# Altium integrated library Molex FFC - FPC Connectors (SMT).IntLib: 638 symbols (part 19 of 20)
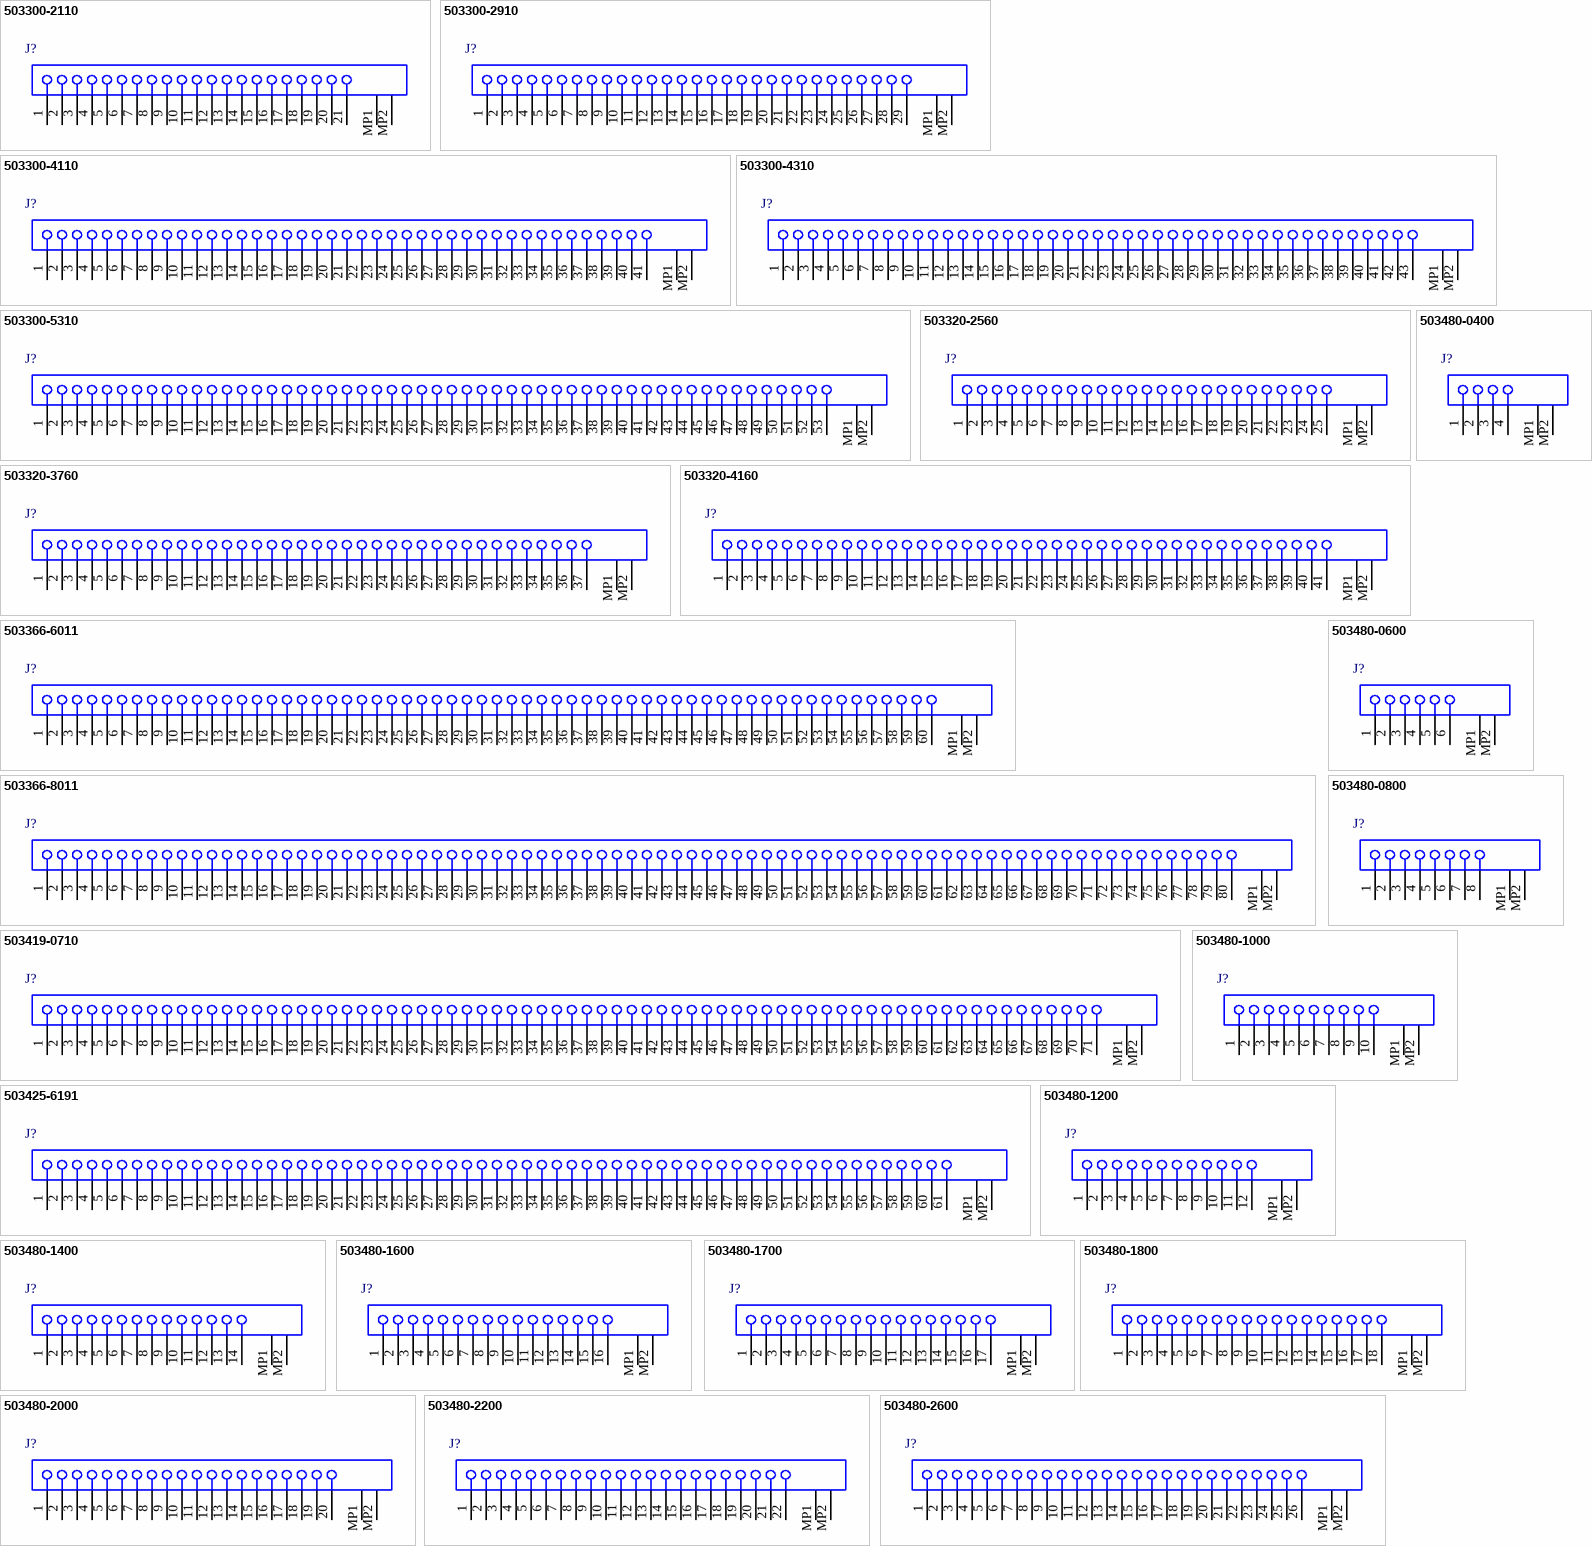
[diagram p39: symbols 503300-2110 to 503480-2600]

## 503300-4110
designator J?
0.25 mm Pitch Easy-On(TM) Front-Flip Type FPC Connector, 1.2 mm Mated Height, Right Angle, SMT, Top Contact, 41 Circuits, -40 to 80 degC, ELV and RoHS Compliant, Tray; Manufacturer: Molex; PartNumber: 503300-4110; Circuits (Loaded): 41; Current (Max per Contact): 0.2A; Durability (mating cycles max): 10; Entry Angle: 90degrees Angle; Mated Height: 1.20mm; Material - Metal: Phosphor Bronze; Material - Plating Mating: Gold over Nickel; PCB Retention: None; Pitch - Mating Interface: 0.25mm; Polarized to PCB: No; Voltage (Max): 50V AC (RMS)/DC; PackageVersion: Rev. C, 02/2014; PackageReference: 503300-4110; PackageDescription: 41-Lead FPC Connector, Pitch 0.25 mm; Contact Position: Top; Number of Rows: 1; Orientation: Right Angle; Packing: Tray; RoHS: TRUE; Stackable: No; Mounting Technology: Surface Mount; ComponentLink1Description: Manufacturer URL; ComponentLink1URL: http://www.molex.com/molex/index.jsp; ComponentLink2Description: Datasheet; ComponentLink2URL: http://www.molex.com/webdocs/datasheets/pdf/en-us/5033004110_FFC_FPC_CONNECTORS.pdf; ComponentLink3Description: Package Specification; ComponentLink3URL: http://www.molex.com/pdm_docs/sd/5033004110_sd.pdf
footprint MOLX-503300-4110 (FPC Connector, 41-Leads, Right Angle, Pitch 0.25 mm, Mated Height 1.2 mm, SMT)
pins: 1, 2, 3, 4, 5, 6, 7, 8, 9, 10, 11, 12, 13, 14, 15, 16, 17, 18, 19, 20, 21, 22, 23, 24, 25, 26, 27, 28, 29, 30, 31, 32, 33, 34, 35, 36, 37, 38, 39, 40, 41, MP1, MP2

## 503300-4310
designator J?
0.25 mm Pitch Easy-On(TM) Front-Flip Type FPC Connector, 1.2 mm Mated Height, Right Angle, SMT, Top Contact, 43 Circuits, -40 to 80 degC, ELV and RoHS Compliant, Tray; Manufacturer: Molex; PartNumber: 503300-4310; Circuits (Loaded): 43; Current (Max per Contact): 0.2A; Durability (mating cycles max): 10; Entry Angle: 90degrees Angle; Mated Height: 1.20mm; Material - Metal: Phosphor Bronze; Material - Plating Mating: Gold over Nickel; PCB Retention: None; Pitch - Mating Interface: 0.25mm; Polarized to PCB: No; Voltage (Max): 50V AC (RMS)/DC; PackageVersion: Rev. C, 02/2014; PackageReference: 503300-4310; PackageDescription: 43-Lead FPC Connector, Pitch 0.25 mm; Contact Position: Top; Number of Rows: 1; Orientation: Right Angle; Packing: Tray; RoHS: TRUE; Stackable: No; Mounting Technology: Surface Mount; ComponentLink1Description: Manufacturer URL; ComponentLink1URL: http://www.molex.com/molex/index.jsp; ComponentLink2Description: Datasheet; ComponentLink2URL: http://www.molex.com/webdocs/datasheets/pdf/en-us/5033004310_FFC_FPC_CONNECTORS.pdf; ComponentLink3Description: Package Specification; ComponentLink3URL: http://www.molex.com/pdm_docs/sd/5033004310_sd.pdf
footprint MOLX-503300-4310 (FPC Connector, 43-Leads, Right Angle, Pitch 0.25 mm, Mated Height 1.2 mm, SMT)
pins: 1, 2, 3, 4, 5, 6, 7, 8, 9, 10, 11, 12, 13, 14, 15, 16, 17, 18, 19, 20, 21, 22, 23, 24, 25, 26, 27, 28, 29, 30, 31, 32, 33, 34, 35, 36, 37, 38, 39, 40, 41, 42, 43, MP1, MP2

## 503300-5310
designator J?
0.25 mm Pitch Easy-On(TM) Front-Flip Type FPC Connector, 1.2 mm Mated Height, Right Angle, SMT, Top Contact, 53 Circuits, -40 to 80 degC, ELV and RoHS Compliant, Tray; Manufacturer: Molex; PartNumber: 503300-5310; Circuits (Loaded): 53; Current (Max per Contact): 0.2A; Durability (mating cycles max): 10; Entry Angle: 90degrees Angle; Mated Height: 1.20mm; Material - Metal: Phosphor Bronze; Material - Plating Mating: Gold over Nickel; PCB Retention: None; Pitch - Mating Interface: 0.25mm; Polarized to PCB: No; Voltage (Max): 50V AC (RMS)/DC; PackageVersion: Rev. C, 02/2014; PackageReference: 503300-5310; PackageDescription: 53-Lead FPC Connector, Pitch 0.25 mm; Contact Position: Top; Number of Rows: 1; Orientation: Right Angle; Packing: Tray; RoHS: TRUE; Stackable: No; Mounting Technology: Surface Mount; ComponentLink1Description: Manufacturer URL; ComponentLink1URL: http://www.molex.com/molex/index.jsp; ComponentLink2Description: Datasheet; ComponentLink2URL: http://www.molex.com/webdocs/datasheets/pdf/en-us/5033005310_FFC_FPC_CONNECTORS.pdf; ComponentLink3Description: Package Specification; ComponentLink3URL: http://www.molex.com/pdm_docs/sd/5033005310_sd.pdf
footprint MOLX-503300-5310 (FPC Connector, 53-Leads, Right Angle, Pitch 0.25 mm, Mated Height 1.2 mm, SMT)
pins: 1, 2, 3, 4, 5, 6, 7, 8, 9, 10, 11, 12, 13, 14, 15, 16, 17, 18, 19, 20, 21, 22, 23, 24, 25, 26, 27, 28, 29, 30, 31, 32, 33, 34, 35, 36, 37, 38, 39, 40, 41, 42, 43, 44, 45, 46, 47, 48, 49, 50, 51, 52, 53, MP1, MP2

## 503320-2560
designator J?
0.25 mm Pitch Easy-On(TM) Type FPC Connector, 1.65 mm Mated Height, Right Angle, SMT, Bottom Contact, 25 Circuits, -40 to 85 degC, ELV and RoHS Compliant, Tape and Reel; Manufacturer: Molex; PartNumber: 503320-2560; Circuits (Loaded): 25; Current (Max per Contact): 0.3A; Durability (mating cycles max): 10; Entry Angle: 90degrees Angle; Mated Height: 1.65mm; Material - Metal: Copper Alloy; Material - Plating Mating: Gold; PCB Locator: No; PCB Retention: Yes; Pitch - Mating Interface: 0.25mm; Voltage (Max): 50V; PackageVersion: Rev. B, 12/2011; PackageReference: 503320-2560; PackageDescription: 25-Lead FPC Connector, Pitch 0.25 mm; Contact Position: Bottom; Material - Plating Termination: Gold; Number of Rows: 1; Orientation: Right Angle; Packing: Tape and Reel; Polarized to PCB: Yes; RoHS: TRUE; Stackable: No; Mounting Technology: Surface Mount; ComponentLink1Description: Manufacturer URL; ComponentLink1URL: http://www.molex.com/molex/index.jsp; ComponentLink2Description: Datasheet; ComponentLink2URL: http://www.molex.com/webdocs/datasheets/pdf/en-us/5033202560_FFC_FPC_CONNECTORS.pdf; ComponentLink3Description: Package Specification; ComponentLink3URL: http://www.molex.com/pdm_docs/sd/5033202560_sd.pdf
footprint MOLX-503320-2560 (FPC Connector, 25-Leads, Right Angle, Pitch 0.25 mm, Mated Height 1.65 mm, SMT)
pins: 1, 2, 3, 4, 5, 6, 7, 8, 9, 10, 11, 12, 13, 14, 15, 16, 17, 18, 19, 20, 21, 22, 23, 24, 25, MP1, MP2

## 503320-3760
designator J?
0.25 mm Pitch Easy-On(TM) Type FPC Connector, 1.65 mm Mated Height, Right Angle, SMT, Bottom Contact, 37 Circuits, -40 to 85 degC, ELV and RoHS Compliant, Tape and Reel; Manufacturer: Molex; PartNumber: 503320-3760; Circuits (Loaded): 37; Current (Max per Contact): 0.3A; Durability (mating cycles max): 10; Entry Angle: 90degrees Angle; Mated Height: 1.65mm; Material - Metal: Copper Alloy; Material - Plating Mating: Gold; PCB Locator: No; PCB Retention: Yes; Pitch - Mating Interface: 0.25mm; Voltage (Max): 50V; PackageVersion: Rev. B, 12/2011; PackageReference: 503320-3760; PackageDescription: 37-Lead FPC Connector, Pitch 0.25 mm; Contact Position: Bottom; Material - Plating Termination: Gold; Number of Rows: 1; Orientation: Right Angle; Packing: Tape and Reel; Polarized to PCB: Yes; RoHS: TRUE; Stackable: No; Mounting Technology: Surface Mount; ComponentLink1Description: Manufacturer URL; ComponentLink1URL: http://www.molex.com/molex/index.jsp; ComponentLink2Description: Datasheet; ComponentLink2URL: http://www.molex.com/webdocs/datasheets/pdf/en-us/5033203760_FFC_FPC_CONNECTORS.pdf; ComponentLink3Description: Package Specification; ComponentLink3URL: http://www.molex.com/pdm_docs/sd/5033203760_sd.pdf
footprint MOLX-503320-3760 (FPC Connector, 37-Leads, Right Angle, Pitch 0.25 mm, Mated Height 1.65 mm, SMT)
pins: 1, 2, 3, 4, 5, 6, 7, 8, 9, 10, 11, 12, 13, 14, 15, 16, 17, 18, 19, 20, 21, 22, 23, 24, 25, 26, 27, 28, 29, 30, 31, 32, 33, 34, 35, 36, 37, MP1, MP2

## 503320-4160
designator J?
0.25 mm Pitch Easy-On(TM) Type FPC Connector, 1.65 mm Mated Height, Right Angle, SMT, Bottom Contact, 41 Circuits, -40 to 85 degC, ELV and RoHS Compliant, Tape and Reel; Manufacturer: Molex; PartNumber: 503320-4160; Circuits (Loaded): 41; Current (Max per Contact): 0.3A; Durability (mating cycles max): 10; Entry Angle: 90degrees Angle; Mated Height: 1.65mm; Material - Metal: Copper Alloy; Material - Plating Mating: Gold; PCB Locator: No; PCB Retention: Yes; Pitch - Mating Interface: 0.25mm; Voltage (Max): 50V; PackageVersion: Rev. B, 12/2011; PackageReference: 503320-4160; PackageDescription: 41-Lead FPC Connector, Pitch 0.25 mm; Contact Position: Bottom; Material - Plating Termination: Gold; Number of Rows: 1; Orientation: Right Angle; Packing: Tape and Reel; Polarized to PCB: Yes; RoHS: TRUE; Stackable: No; Mounting Technology: Surface Mount; ComponentLink1Description: Manufacturer URL; ComponentLink1URL: http://www.molex.com/molex/index.jsp; ComponentLink2Description: Datasheet; ComponentLink2URL: http://www.molex.com/webdocs/datasheets/pdf/en-us/5033204160_FFC_FPC_CONNECTORS.pdf; ComponentLink3Description: Package Specification; ComponentLink3URL: http://www.molex.com/pdm_docs/sd/5033204160_sd.pdf
footprint MOLX-503320-4160 (FPC Connector, 41-Leads, Right Angle, Pitch 0.25 mm, Mated Height 1.65 mm, SMT)
pins: 1, 2, 3, 4, 5, 6, 7, 8, 9, 10, 11, 12, 13, 14, 15, 16, 17, 18, 19, 20, 21, 22, 23, 24, 25, 26, 27, 28, 29, 30, 31, 32, 33, 34, 35, 36, 37, 38, 39, 40, 41, MP1, MP2

## 503366-6011
designator J?
0.5 mm Pitch Easy-On(TM) FPC Connector, 2.0 mm Mated Height, Right Angle, SMT, Bottom Contact, 60 Circuits, -20 to 85 degC, ELV and RoHS Compliant, Tape and Reel; Manufacturer: Molex; PartNumber: 503366-6011; Circuits (Loaded): 60; Current (Max per Contact): 0.5A; Durability (mating cycles max): 20; Entry Angle: Vertical; Mated Height: 2.00mm; Material - Metal: Phosphor Bronze; Material - Plating Mating: Gold over Nickel; Material - Plating Termination: Tin; PCB Locator: No; PCB Retention: Yes; Pitch - Mating Interface: 0.50mm; Voltage (Max): 50V DC; PackageVersion: Rev. A, 04/2010; PackageReference: 503366-6011; PackageDescription: 60-Lead FPC Connector, Pitch 0.5 mm; Circuits (maximum): 60; Contact Position: Bottom; Number of Rows: 1; Orientation: Right Angle; Packing: Tape and Reel; Pitch - Termination Interface: 0.50mm; Polarized to PCB: No; RoHS: TRUE; Stackable: No; Mounting Technology: Surface Mount; ComponentLink1Description: Manufacturer URL; ComponentLink1URL: http://www.molex.com/molex/index.jsp; ComponentLink2Description: Datasheet; ComponentLink2URL: http://www.molex.com/webdocs/datasheets/pdf/en-us/5033666011_FFC_FPC_CONNECTORS.pdf; ComponentLink3Description: Package Specification; ComponentLink3URL: http://www.molex.com/pdm_docs/sd/5033666011_sd.pdf
footprint MOLX-503366-6011 (FPC Connector, 60-Leads, Right Angle, Pitch 0.5 mm, Mated Height 2.0 mm, SMT)
pins: 1, 2, 3, 4, 5, 6, 7, 8, 9, 10, 11, 12, 13, 14, 15, 16, 17, 18, 19, 20, 21, 22, 23, 24, 25, 26, 27, 28, 29, 30, 31, 32, 33, 34, 35, 36, 37, 38, 39, 40, 41, 42, 43, 44, 45, 46, 47, 48, 49, 50, 51, 52, 53, 54, 55, 56, 57, 58, 59, 60, MP1, MP2

## 503366-8011
designator J?
0.5 mm Pitch Easy-On(TM) FPC Connector, 2.0 mm Mated Height, Right Angle, SMT, Bottom Contact, 80 Circuits, -20 to 85 degC, ELV and RoHS Compliant, Tape and Reel; Manufacturer: Molex; PartNumber: 503366-8011; Circuits (Loaded): 80; Current (Max per Contact): 0.5A; Durability (mating cycles max): 20; Entry Angle: Vertical; Mated Height: 2.00mm; Material - Metal: Phosphor Bronze; Material - Plating Mating: Gold over Nickel; Material - Plating Termination: Tin; PCB Locator: No; PCB Retention: Yes; Pitch - Mating Interface: 0.50mm; Voltage (Max): 50V DC; PackageVersion: Rev. A, 04/2010; PackageReference: 503366-8011; PackageDescription: 80-Lead FPC Connector, Pitch 0.5 mm; Circuits (maximum): 80; Contact Position: Bottom; Number of Rows: 1; Orientation: Right Angle; Packing: Tape and Reel; Pitch - Termination Interface: 0.50mm; Polarized to PCB: No; RoHS: TRUE; Stackable: No; Mounting Technology: Surface Mount; ComponentLink1Description: Manufacturer URL; ComponentLink1URL: http://www.molex.com/molex/index.jsp; ComponentLink2Description: Datasheet; ComponentLink2URL: http://www.molex.com/webdocs/datasheets/pdf/en-us/5033668011_FFC_FPC_CONNECTORS.pdf; ComponentLink3Description: Package Specification; ComponentLink3URL: http://www.molex.com/pdm_docs/sd/5033668011_sd.pdf
footprint MOLX-503366-8011 (FPC Connector, 80-Leads, Right Angle, Pitch 0.5 mm, Mated Height 2.0 mm, SMT)
pins: 1, 2, 3, 4, 5, 6, 7, 8, 9, 10, 11, 12, 13, 14, 15, 16, 17, 18, 19, 20, 21, 22, 23, 24, 25, 26, 27, 28, 29, 30, 31, 32, 33, 34, 35, 36, 37, 38, 39, 40, 41, 42, 43, 44, 45, 46, 47, 48, 49, 50, 51, 52, 53, 54, 55, 56, 57, 58, 59, 60, 61, 62, 63, 64, 65, 66, 67, 68, 69, 70, 71, 72, 73, 74, 75, 76, 77, 78, 79, 80, MP1, MP2

## 503419-0710
designator J?
0.2 mm Pitch Easy-On(TM) Front Flip Actuator Type FPC Connector, 0.9 mm Mated Height, Right Angle, ZIF, SMT, Bottom Contact, 71 Circuits, -40 to 85 degC, ELV and RoHS Compliant, Tape and Reel; Manufacturer: Molex; PartNumber: 503419-0710; Circuits (Loaded): 71; Current (Max per Contact): 0.2A; Durability (mating cycles max): 10; Entry Angle: 90degrees Angle; Mated Height: 0.90mm; Material - Metal: Copper Alloy; Material - Plating Mating: Gold; PCB Locator: No; PCB Retention: Yes; Pitch - Mating Interface: 0.20mm; Voltage (Max): 50V; PackageVersion: Rev. B, 08/2013; PackageReference: 503419-0710; PackageDescription: 71-Lead FPC Connector, Pitch 0.2 mm; Contact Position: Bottom; Material - Plating Termination: Gold; Number of Rows: 1; Orientation: Right Angle; Packing: Tape and Reel; Pitch - Termination Interface: 0.20mm; Polarized to PCB: Yes; RoHS: TRUE; Stackable: No; Mounting Technology: Surface Mount; ComponentLink1Description: Manufacturer URL; ComponentLink1URL: http://www.molex.com/molex/index.jsp; ComponentLink2Description: Datasheet; ComponentLink2URL: http://www.molex.com/webdocs/datasheets/pdf/en-us/5034190710_FFC_FPC_CONNECTORS.pdf; ComponentLink3Description: Package Specification; ComponentLink3URL: http://www.molex.com/pdm_docs/sd/5034190710_sd.pdf
footprint MOLX-503419-0710 (FPC Connector, 71-Leads, Right Angle, Pitch 0.2 mm, Mated Height 0.9 mm, SMT)
pins: 1, 2, 3, 4, 5, 6, 7, 8, 9, 10, 11, 12, 13, 14, 15, 16, 17, 18, 19, 20, 21, 22, 23, 24, 25, 26, 27, 28, 29, 30, 31, 32, 33, 34, 35, 36, 37, 38, 39, 40, 41, 42, 43, 44, 45, 46, 47, 48, 49, 50, 51, 52, 53, 54, 55, 56, 57, 58, 59, 60, 61, 62, 63, 64, 65, 66, 67, 68, 69, 70, 71, MP1, MP2

## 503425-6191
designator J?
0.3 mm Pitch Easy-On(TM) BackFlip(TM) Type FPC Connector, 0.9 mm Mated Height, Right Angle, SMT, Dual Contact, 61 Circuits, -40 to 85 degC, ELV and RoHS Compliant, Tape and Reel; Manufacturer: Molex; PartNumber: 503425-6191; Circuits (Loaded): 61; Current (Max per Contact): 0.2A; Durability (mating cycles max): 10; Entry Angle: 90degrees Angle; Mated Height: 0.90mm; Material - Metal: Copper-Nickel-Tin; Material - Plating Mating: Gold; PCB Locator: No; PCB Retention: Yes; Pitch - Mating Interface: 0.30mm; Voltage (Max): 50V AC (RMS)/DC; PackageVersion: Rev. 0, 05/2010; PackageReference: 503425-6191; PackageDescription: 61-Lead FPC Connector, Pitch 0.3 mm; Contact Position: Dual; Material - Plating Termination: Gold; Number of Rows: 1; Orientation: Right Angle; Packing: Tape and Reel; Polarized to PCB: Yes; RoHS: TRUE; Stackable: No; Mounting Technology: Surface Mount; ComponentLink1Description: Manufacturer URL; ComponentLink1URL: http://www.molex.com/molex/index.jsp; ComponentLink2Description: Datasheet; ComponentLink2URL: http://www.molex.com/webdocs/datasheets/pdf/en-us/5034256191_FFC_FPC_CONNECTORS.pdf; ComponentLink3Description: Package Specification; ComponentLink3URL: http://www.molex.com/pdm_docs/sd/5034256191_sd.pdf
footprint MOLX-503425-6191 (FPC Connector, 61-Leads, Right Angle, Pitch 0.3 mm, Mated Height 0.9 mm, SMT)
pins: 1, 2, 3, 4, 5, 6, 7, 8, 9, 10, 11, 12, 13, 14, 15, 16, 17, 18, 19, 20, 21, 22, 23, 24, 25, 26, 27, 28, 29, 30, 31, 32, 33, 34, 35, 36, 37, 38, 39, 40, 41, 42, 43, 44, 45, 46, 47, 48, 49, 50, 51, 52, 53, 54, 55, 56, 57, 58, 59, 60, 61, MP1, MP2

## 503480-0400
designator J?
0.5 mm Pitch Easy-On(TM) BackFlip(TM) Type FPC Connector, 1.0 mm Mated Height, Right Angle, SMT, Dual Contact, 4 Circuits, -40 to 85 degC, ELV and RoHS Compliant, Tape and Reel; Manufacturer: Molex; PartNumber: 503480-0400; Circuits (Loaded): 4; Current (Max per Contact): 0.5A; Durability (mating cycles max): 10; Entry Angle: 90degrees Angle; Mated Height: 1.00mm; Material - Metal: Phosphor Bronze; Material - Plating Mating: Gold; Material - Plating Termination: Gold, Tin; PCB Locator: No; PCB Retention: Yes; Pitch - Mating Interface: 0.50mm; Voltage (Max): 50V AC (RMS)/DC; PackageVersion: Rev. F, 09/2012; PackageReference: 503480-0400; PackageDescription: 4-Lead FPC Connector, Pitch 0.5 mm; Contact Position: Dual; Number of Rows: 1; Orientation: Right Angle; Packing: Tape and Reel; Polarized to PCB: Yes; RoHS: TRUE; Stackable: No; Mounting Technology: Surface Mount; ComponentLink1Description: Manufacturer URL; ComponentLink1URL: http://www.molex.com/molex/index.jsp; ComponentLink2Description: Datasheet; ComponentLink2URL: http://www.molex.com/webdocs/datasheets/pdf/en-us/5034800400_FFC_FPC_CONNECTORS.pdf; ComponentLink3Description: Package Specification; ComponentLink3URL: http://www.molex.com/pdm_docs/sd/5034800400_sd.pdf
footprint MOLX-503480-0400 (FPC Connector, 4-Leads, Right Angle, Pitch 0.5 mm, Mated Height 1.0 mm, SMT)
pins: 1, 2, 3, 4, MP1, MP2

## 503480-0600
designator J?
0.5 mm Pitch Easy-On(TM) BackFlip(TM) Type FPC Connector, 1.0 mm Mated Height, Right Angle, SMT, Dual Contact, 6 Circuits, -40 to 85 degC, ELV and RoHS Compliant, Tape and Reel; Manufacturer: Molex; PartNumber: 503480-0600; Circuits (Loaded): 6; Current (Max per Contact): 0.5A; Durability (mating cycles max): 10; Entry Angle: 90degrees Angle; Mated Height: 1.00mm; Material - Metal: Phosphor Bronze; Material - Plating Mating: Gold; Material - Plating Termination: Gold, Tin; PCB Locator: No; PCB Retention: Yes; Pitch - Mating Interface: 0.50mm; Voltage (Max): 50V AC (RMS)/DC; PackageVersion: Rev. F, 09/2012; PackageReference: 503480-0600; PackageDescription: 6-Lead FPC Connector, Pitch 0.5 mm; Contact Position: Dual; Number of Rows: 1; Orientation: Right Angle; Packing: Tape and Reel; Polarized to PCB: Yes; RoHS: TRUE; Stackable: No; Mounting Technology: Surface Mount; ComponentLink1Description: Manufacturer URL; ComponentLink1URL: http://www.molex.com/molex/index.jsp; ComponentLink2Description: Datasheet; ComponentLink2URL: http://www.molex.com/webdocs/datasheets/pdf/en-us/5034800600_FFC_FPC_CONNECTORS.pdf; ComponentLink3Description: Package Specification; ComponentLink3URL: http://www.molex.com/pdm_docs/sd/5034800600_sd.pdf
footprint MOLX-503480-0600 (FPC Connector, 6-Leads, Right Angle, Pitch 0.5 mm, Mated Height 1.0 mm, SMT)
pins: 1, 2, 3, 4, 5, 6, MP1, MP2

## 503480-0800
designator J?
0.5 mm Pitch Easy-On(TM) BackFlip(TM) Type FPC Connector, 1.0 mm Mated Height, Right Angle, SMT, Dual Contact, 8 Circuits, -40 to 85 degC, ELV and RoHS Compliant, Tape and Reel; Manufacturer: Molex; PartNumber: 503480-0800; Circuits (Loaded): 8; Current (Max per Contact): 0.5A; Durability (mating cycles max): 10; Entry Angle: 90degrees Angle; Mated Height: 1.00mm; Material - Metal: Phosphor Bronze; Material - Plating Mating: Gold; Material - Plating Termination: Gold, Tin; PCB Locator: No; PCB Retention: Yes; Pitch - Mating Interface: 0.50mm; Voltage (Max): 50V AC (RMS)/DC; PackageVersion: Rev. F, 09/2012; PackageReference: 503480-0800; PackageDescription: 8-Lead FPC Connector, Pitch 0.5 mm; Contact Position: Dual; Number of Rows: 1; Orientation: Right Angle; Packing: Tape and Reel; Polarized to PCB: Yes; RoHS: TRUE; Stackable: No; Mounting Technology: Surface Mount; ComponentLink1Description: Manufacturer URL; ComponentLink1URL: http://www.molex.com/molex/index.jsp; ComponentLink2Description: Datasheet; ComponentLink2URL: http://www.molex.com/webdocs/datasheets/pdf/en-us/5034800800_FFC_FPC_CONNECTORS.pdf; ComponentLink3Description: Package Specification; ComponentLink3URL: http://www.molex.com/pdm_docs/sd/5034800800_sd.pdf
footprint MOLX-503480-0800 (FPC Connector, 8-Leads, Right Angle, Pitch 0.5 mm, Mated Height 1.0 mm, SMT)
pins: 1, 2, 3, 4, 5, 6, 7, 8, MP1, MP2

## 503480-1000
designator J?
0.5 mm Pitch Easy-On(TM) BackFlip(TM) Type FPC Connector, 1.0 mm Mated Height, Right Angle, SMT, Dual Contact, 10 Circuits, -40 to 85 degC, ELV and RoHS Compliant, Tape and Reel; Manufacturer: Molex; PartNumber: 503480-1000; Circuits (Loaded): 10; Current (Max per Contact): 0.5A; Entry Angle: 90degrees Angle; Mated Height: 1.00mm; Material - Metal: Phosphor Bronze; Material - Plating Mating: Gold; Material - Plating Termination: Gold, Tin; PCB Locator: No; PCB Retention: Yes; Pitch - Mating Interface: 0.50mm; Voltage (Max): 50V AC (RMS)/DC; PackageVersion: Rev. F, 09/2012; PackageReference: 503480-1000; PackageDescription: 10-Lead FPC Connector, Pitch 0.5 mm; Contact Position: Dual; Durability (mating cycles max): 10; Number of Rows: 1; Orientation: Right Angle; Packing: Tape and Reel; Polarized to PCB: Yes; RoHS: TRUE; Stackable: No; Mounting Technology: Surface Mount; ComponentLink1Description: Manufacturer URL; ComponentLink1URL: http://www.molex.com/molex/index.jsp; ComponentLink2Description: Datasheet; ComponentLink2URL: http://www.molex.com/webdocs/datasheets/pdf/en-us/5034801000_FFC_FPC_CONNECTORS.pdf; ComponentLink3Description: Package Specification; ComponentLink3URL: http://www.molex.com/pdm_docs/sd/5034801000_sd.pdf
footprint MOLX-503480-1000 (FPC Connector, 10-Leads, Right Angle, Pitch 0.5 mm, Mated Height 1.0 mm, SMT)
pins: 1, 2, 3, 4, 5, 6, 7, 8, 9, 10, MP1, MP2

## 503480-1200
designator J?
0.5 mm Pitch Easy-On(TM) BackFlip(TM) Type FPC Connector, 1.0 mm Mated Height, Right Angle, SMT, Dual Contact, 12 Circuits, -40 to 85 degC, ELV and RoHS Compliant, Tape and Reel; Manufacturer: Molex; PartNumber: 503480-1200; Circuits (Loaded): 12; Current (Max per Contact): 0.5A; Durability (mating cycles max): 10; Entry Angle: 90degrees Angle; Mated Height: 1.00mm; Material - Metal: Phosphor Bronze; Material - Plating Mating: Gold; Material - Plating Termination: Gold, Tin; PCB Locator: No; PCB Retention: Yes; Pitch - Mating Interface: 0.50mm; Voltage (Max): 50V AC (RMS)/DC; PackageVersion: Rev. F, 09/2012; PackageReference: 503480-1200; PackageDescription: 12-Lead FPC Connector, Pitch 0.5 mm; Contact Position: Dual; Number of Rows: 1; Orientation: Right Angle; Packing: Tape and Reel; Polarized to PCB: Yes; RoHS: TRUE; Stackable: No; Mounting Technology: Surface Mount; ComponentLink1Description: Manufacturer URL; ComponentLink1URL: http://www.molex.com/molex/index.jsp; ComponentLink2Description: Datasheet; ComponentLink2URL: http://www.molex.com/webdocs/datasheets/pdf/en-us/5034801200_FFC_FPC_CONNECTORS.pdf; ComponentLink3Description: Package Specification; ComponentLink3URL: http://www.molex.com/pdm_docs/sd/5034801200_sd.pdf
footprint MOLX-503480-1200 (FPC Connector, 12-Leads, Right Angle, Pitch 0.5 mm, Mated Height 1.0 mm, SMT)
pins: 1, 2, 3, 4, 5, 6, 7, 8, 9, 10, 11, 12, MP1, MP2

## 503480-1400
designator J?
0.5 mm Pitch Easy-On(TM) BackFlip(TM) Type FPC Connector, 1.0 mm Mated Height, Right Angle, SMT, Dual Contact, 14 Circuits, -40 to 85 degC, ELV and RoHS Compliant, Tape and Reel; Manufacturer: Molex; PartNumber: 503480-1400; Circuits (Loaded): 14; Current (Max per Contact): 0.5A; Durability (mating cycles max): 10; Entry Angle: 90degrees Angle; Mated Height: 1.00mm; Material - Metal: Phosphor Bronze; Material - Plating Mating: Gold; Material - Plating Termination: Gold, Tin; PCB Locator: No; PCB Retention: Yes; Pitch - Mating Interface: 0.50mm; Voltage (Max): 50V AC (RMS)/DC; PackageVersion: Rev. F, 09/2012; PackageReference: 503480-1400; PackageDescription: 14-Lead FPC Connector, Pitch 0.5 mm; Contact Position: Dual; Number of Rows: 1; Orientation: Right Angle; Packing: Tape and Reel; Polarized to PCB: Yes; RoHS: TRUE; Stackable: No; Mounting Technology: Surface Mount; ComponentLink1Description: Manufacturer URL; ComponentLink1URL: http://www.molex.com/molex/index.jsp; ComponentLink2Description: Datasheet; ComponentLink2URL: http://www.molex.com/webdocs/datasheets/pdf/en-us/5034801400_FFC_FPC_CONNECTORS.pdf; ComponentLink3Description: Package Specification; ComponentLink3URL: http://www.molex.com/pdm_docs/sd/5034801400_sd.pdf
footprint MOLX-503480-1400 (FPC Connector, 14-Leads, Right Angle, Pitch 0.5 mm, Mated Height 1.0 mm, SMT)
pins: 1, 2, 3, 4, 5, 6, 7, 8, 9, 10, 11, 12, 13, 14, MP1, MP2

## 503480-1600
designator J?
0.5 mm Pitch Easy-On(TM) BackFlip(TM) Type FPC Connector, 1.0 mm Mated Height, Right Angle, SMT, Dual Contact, 16 Circuits, -40 to 85 degC, ELV and RoHS Compliant, Tape and Reel; Manufacturer: Molex; PartNumber: 503480-1600; Circuits (Loaded): 16; Current (Max per Contact): 0.5A; Durability (mating cycles max): 10; Entry Angle: 90degrees Angle; Mated Height: 1.00mm; Material - Metal: Phosphor Bronze; Material - Plating Mating: Gold; Material - Plating Termination: Gold, Tin; PCB Locator: No; PCB Retention: Yes; Pitch - Mating Interface: 0.50mm; Voltage (Max): 50V AC (RMS)/DC; PackageVersion: Rev. F, 09/2012; PackageReference: 503480-1600; PackageDescription: 16-Lead FPC Connector, Pitch 0.5 mm; Contact Position: Dual; Number of Rows: 1; Orientation: Right Angle; Packing: Tape and Reel; Polarized to PCB: Yes; RoHS: TRUE; Stackable: No; Mounting Technology: Surface Mount; ComponentLink1Description: Manufacturer URL; ComponentLink1URL: http://www.molex.com/molex/index.jsp; ComponentLink2Description: Datasheet; ComponentLink2URL: http://www.molex.com/webdocs/datasheets/pdf/en-us/5034801600_FFC_FPC_CONNECTORS.pdf; ComponentLink3Description: Package Specification; ComponentLink3URL: http://www.molex.com/pdm_docs/sd/5034801600_sd.pdf
footprint MOLX-503480-1600 (FPC Connector, 16-Leads, Right Angle, Pitch 0.5 mm, Mated Height 1.0 mm, SMT)
pins: 1, 2, 3, 4, 5, 6, 7, 8, 9, 10, 11, 12, 13, 14, 15, 16, MP1, MP2

## 503480-1700
designator J?
0.5 mm Pitch Easy-On(TM) BackFlip(TM) Type FPC Connector, 1.0 mm Mated Height, Right Angle, SMT, Dual Contact, 17 Circuits, -40 to 85 degC, ELV and RoHS Compliant, Tape and Reel; Manufacturer: Molex; PartNumber: 503480-1700; Circuits (Loaded): 17; Current (Max per Contact): 0.5A; Durability (mating cycles max): 10; Entry Angle: 90degrees Angle; Mated Height: 1.00mm; Material - Metal: Phosphor Bronze; Material - Plating Mating: Gold; Material - Plating Termination: Gold, Tin; PCB Locator: No; PCB Retention: Yes; Pitch - Mating Interface: 0.50mm; Voltage (Max): 50V AC (RMS)/DC; PackageVersion: Rev. F, 09/2012; PackageReference: 503480-1700; PackageDescription: 17-Lead FPC Connector, Pitch 0.5 mm; Contact Position: Dual; Number of Rows: 1; Orientation: Right Angle; Packing: Tape and Reel; Polarized to PCB: Yes; RoHS: TRUE; Stackable: No; Mounting Technology: Surface Mount; ComponentLink1Description: Manufacturer URL; ComponentLink1URL: http://www.molex.com/molex/index.jsp; ComponentLink2Description: Datasheet; ComponentLink2URL: http://www.molex.com/webdocs/datasheets/pdf/en-us/5034801700_FFC_FPC_CONNECTORS.pdf; ComponentLink3Description: Package Specification; ComponentLink3URL: http://www.molex.com/pdm_docs/sd/5034801700_sd.pdf
footprint MOLX-503480-1700 (FPC Connector, 17-Leads, Right Angle, Pitch 0.5 mm, Mated Height 1.0 mm, SMT)
pins: 1, 2, 3, 4, 5, 6, 7, 8, 9, 10, 11, 12, 13, 14, 15, 16, 17, MP1, MP2

## 503480-1800
designator J?
0.5 mm Pitch Easy-On(TM) BackFlip(TM) Type FPC Connector, 1.0 mm Mated Height, Right Angle, SMT, Dual Contact, 18 Circuits, -40 to 85 degC, ELV and RoHS Compliant, Tape and Reel; Manufacturer: Molex; PartNumber: 503480-1800; Circuits (Loaded): 18; Current (Max per Contact): 0.5A; Durability (mating cycles max): 10; Entry Angle: 90degrees Angle; Mated Height: 1.00mm; Material - Metal: Phosphor Bronze; Material - Plating Mating: Gold; Material - Plating Termination: Gold, Tin; PCB Locator: No; PCB Retention: Yes; Pitch - Mating Interface: 0.50mm; Voltage (Max): 50V AC (RMS)/DC; PackageVersion: Rev. F, 09/2012; PackageReference: 503480-1800; PackageDescription: 18-Lead FPC Connector, Pitch 0.5 mm; Contact Position: Dual; Number of Rows: 1; Orientation: Right Angle; Packing: Tape and Reel; Polarized to PCB: Yes; RoHS: TRUE; Stackable: No; Mounting Technology: Surface Mount; ComponentLink1Description: Manufacturer URL; ComponentLink1URL: http://www.molex.com/molex/index.jsp; ComponentLink2Description: Datasheet; ComponentLink2URL: http://www.molex.com/webdocs/datasheets/pdf/en-us/5034801800_FFC_FPC_CONNECTORS.pdf; ComponentLink3Description: Package Specification; ComponentLink3URL: http://www.molex.com/pdm_docs/sd/5034801800_sd.pdf
footprint MOLX-503480-1800 (FPC Connector, 18-Leads, Right Angle, Pitch 0.5 mm, Mated Height 1.0 mm, SMT)
pins: 1, 2, 3, 4, 5, 6, 7, 8, 9, 10, 11, 12, 13, 14, 15, 16, 17, 18, MP1, MP2

## 503480-2000
designator J?
0.5 mm Pitch Easy-On(TM) BackFlip(TM) Type FPC Connector, 1.0 mm Mated Height, Right Angle, SMT, Dual Contact, 20 Circuits, -40 to 85 degC, ELV and RoHS Compliant, Tape and Reel; Manufacturer: Molex; PartNumber: 503480-2000; Circuits (Loaded): 20; Current (Max per Contact): 0.5A; Durability (mating cycles max): 10; Entry Angle: 90degrees Angle; Mated Height: 1.00mm; Material - Metal: Phosphor Bronze; Material - Plating Mating: Gold; Material - Plating Termination: Gold, Tin; PCB Locator: No; PCB Retention: Yes; Pitch - Mating Interface: 0.50mm; Voltage (Max): 50V AC (RMS)/DC; PackageVersion: Rev. F, 09/2012; PackageReference: 503480-2000; PackageDescription: 20-Lead FPC Connector, Pitch 0.5 mm; Contact Position: Dual; Number of Rows: 1; Orientation: Right Angle; Packing: Tape and Reel; Polarized to PCB: Yes; RoHS: TRUE; Stackable: No; Mounting Technology: Surface Mount; ComponentLink1Description: Manufacturer URL; ComponentLink1URL: http://www.molex.com/molex/index.jsp; ComponentLink2Description: Datasheet; ComponentLink2URL: http://www.molex.com/webdocs/datasheets/pdf/en-us/5034802000_FFC_FPC_CONNECTORS.pdf; ComponentLink3Description: Package Specification; ComponentLink3URL: http://www.molex.com/pdm_docs/sd/5034802000_sd.pdf
footprint MOLX-503480-2000 (FPC Connector, 20-Leads, Right Angle, Pitch 0.5 mm, Mated Height 1.0 mm, SMT)
pins: 1, 2, 3, 4, 5, 6, 7, 8, 9, 10, 11, 12, 13, 14, 15, 16, 17, 18, 19, 20, MP1, MP2

## 503480-2200
designator J?
0.5 mm Pitch Easy-On(TM) BackFlip(TM) Type FPC Connector, 1.0 mm Mated Height, Right Angle, SMT, Dual Contact, 22 Circuits, -40 to 85 degC, ELV and RoHS Compliant, Tape and Reel; Manufacturer: Molex; PartNumber: 503480-2200; Circuits (Loaded): 22; Current (Max per Contact): 0.5A; Durability (mating cycles max): 10; Entry Angle: 90degrees Angle; Mated Height: 1.00mm; Material - Metal: Phosphor Bronze; Material - Plating Mating: Gold; Material - Plating Termination: Gold, Tin; PCB Locator: No; PCB Retention: Yes; Pitch - Mating Interface: 0.50mm; Voltage (Max): 50V AC (RMS)/DC; PackageVersion: Rev. F, 09/2012; PackageReference: 503480-2200; PackageDescription: 22-Lead FPC Connector, Pitch 0.5 mm; Contact Position: Dual; Number of Rows: 1; Orientation: Right Angle; Packing: Tape and Reel; Polarized to PCB: Yes; RoHS: TRUE; Stackable: No; Mounting Technology: Surface Mount; ComponentLink1Description: Manufacturer URL; ComponentLink1URL: http://www.molex.com/molex/index.jsp; ComponentLink2Description: Datasheet; ComponentLink2URL: http://www.molex.com/webdocs/datasheets/pdf/en-us/5034802200_FFC_FPC_CONNECTORS.pdf; ComponentLink3Description: Package Specification; ComponentLink3URL: http://www.molex.com/pdm_docs/sd/5034802200_sd.pdf
footprint MOLX-503480-2200 (FPC Connector, 22-Leads, Right Angle, Pitch 0.5 mm, Mated Height 1.0 mm, SMT)
pins: 1, 2, 3, 4, 5, 6, 7, 8, 9, 10, 11, 12, 13, 14, 15, 16, 17, 18, 19, 20, 21, 22, MP1, MP2

## 503480-2600
designator J?
0.5 mm Pitch Easy-On(TM) BackFlip(TM) Type FPC Connector, 1.0 mm Mated Height, Right Angle, SMT, Dual Contact, 26 Circuits, -40 to 85 degC, ELV and RoHS Compliant, Tape and Reel; Manufacturer: Molex; PartNumber: 503480-2600; Circuits (Loaded): 26; Current (Max per Contact): 0.5A; Durability (mating cycles max): 10; Entry Angle: 90degrees Angle; Mated Height: 1.00mm; Material - Metal: Phosphor Bronze; Material - Plating Mating: Gold; Material - Plating Termination: Gold, Tin; PCB Locator: No; PCB Retention: Yes; Pitch - Mating Interface: 0.50mm; Voltage (Max): 50V AC (RMS)/DC; PackageVersion: Rev. F, 09/2012; PackageReference: 503480-2600; PackageDescription: 26-Lead FPC Connector, Pitch 0.5 mm; Contact Position: Dual; Number of Rows: 1; Orientation: Right Angle; Packing: Tape and Reel; Polarized to PCB: Yes; RoHS: TRUE; Stackable: No; Mounting Technology: Surface Mount; ComponentLink1Description: Manufacturer URL; ComponentLink1URL: http://www.molex.com/molex/index.jsp; ComponentLink2Description: Datasheet; ComponentLink2URL: http://www.molex.com/webdocs/datasheets/pdf/en-us/5034802600_FFC_FPC_CONNECTORS.pdf; ComponentLink3Description: Package Specification; ComponentLink3URL: http://www.molex.com/pdm_docs/sd/5034802600_sd.pdf
footprint MOLX-503480-2600 (FPC Connector, 26-Leads, Right Angle, Pitch 0.5 mm, Mated Height 1.0 mm, SMT)
pins: 1, 2, 3, 4, 5, 6, 7, 8, 9, 10, 11, 12, 13, 14, 15, 16, 17, 18, 19, 20, 21, 22, 23, 24, 25, 26, MP1, MP2

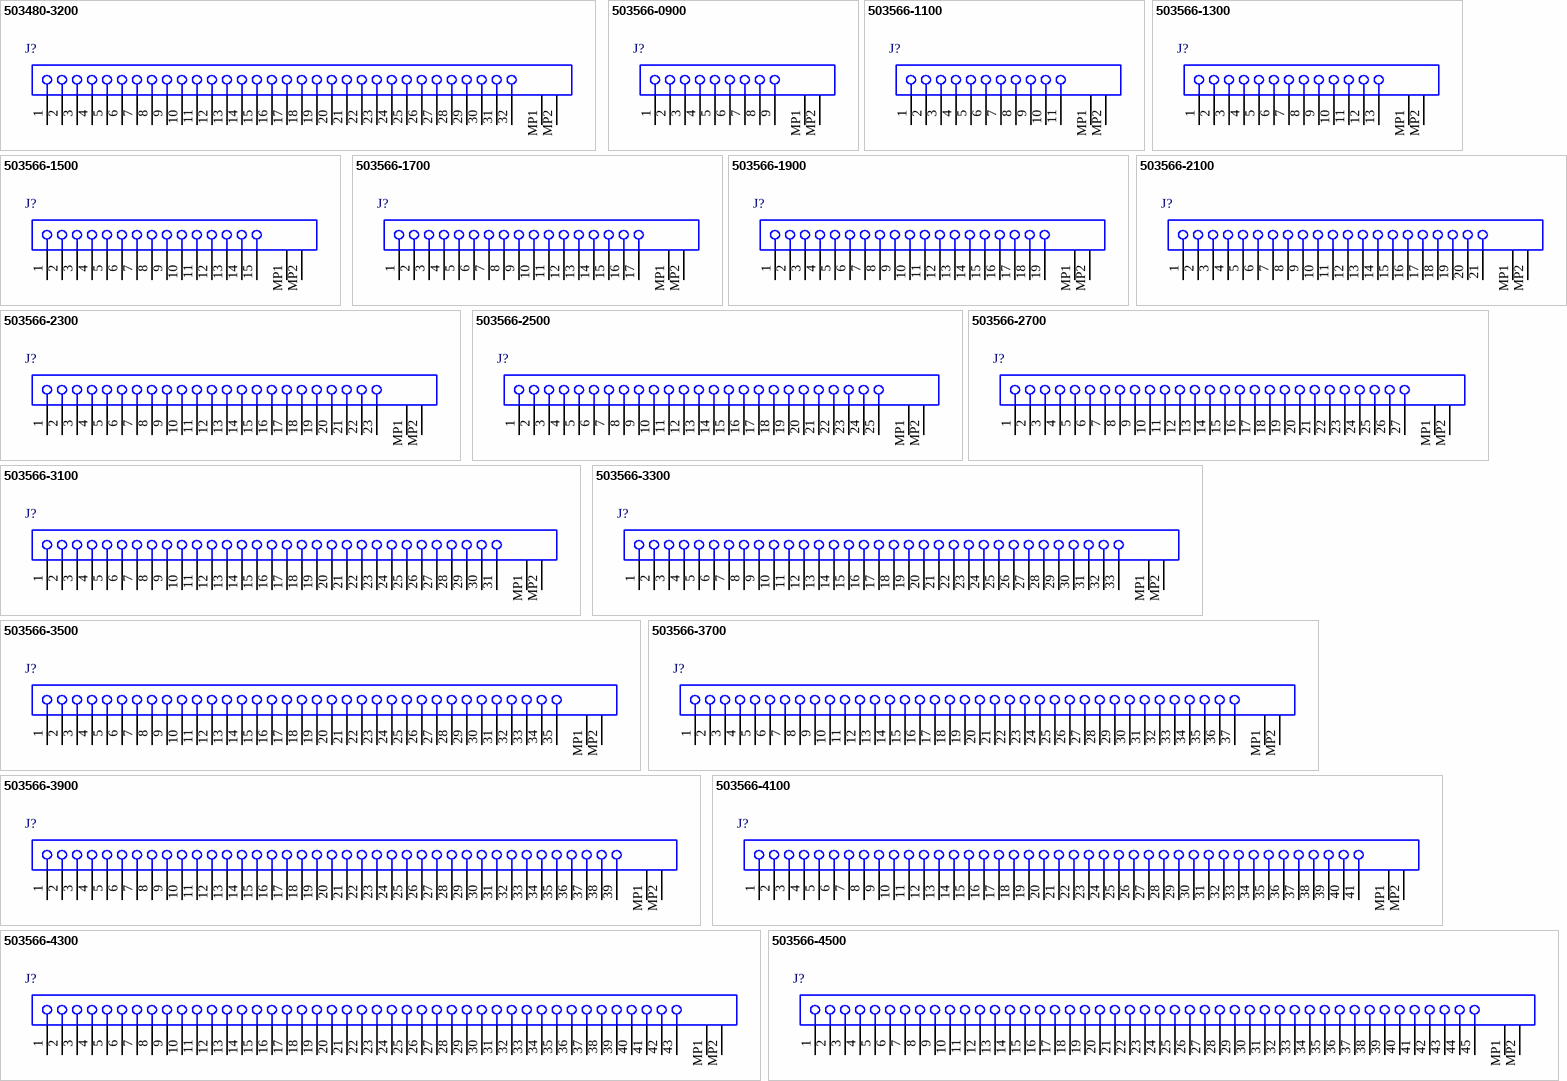
[diagram p21: symbols 503480-3200 to 503566-4500]

## 503480-3200
designator J?
0.5 mm Pitch Easy-On(TM) BackFlip(TM) Type FPC Connector, 1.0 mm Mated Height, Right Angle, SMT, Dual Contact, 32 Circuits, -40 to 85 degC, ELV and RoHS Compliant, Tape and Reel; Manufacturer: Molex; PartNumber: 503480-3200; Circuits (Loaded): 32; Current (Max per Contact): 0.5A; Durability (mating cycles max): 10; Entry Angle: 90degrees Angle; Mated Height: 1.00mm; Material - Metal: Phosphor Bronze; Material - Plating Mating: Gold; Material - Plating Termination: Gold, Tin; PCB Locator: No; PCB Retention: Yes; Pitch - Mating Interface: 0.50mm; Voltage (Max): 50V AC (RMS)/DC; PackageVersion: Rev. F, 09/2012; PackageReference: 503480-3200; PackageDescription: 32-Lead FPC Connector, Pitch 0.5 mm; Contact Position: Dual; Number of Rows: 1; Orientation: Right Angle; Packing: Tape and Reel; Polarized to PCB: Yes; RoHS: TRUE; Stackable: No; Mounting Technology: Surface Mount; ComponentLink1Description: Manufacturer URL; ComponentLink1URL: http://www.molex.com/molex/index.jsp; ComponentLink2Description: Datasheet; ComponentLink2URL: http://www.molex.com/webdocs/datasheets/pdf/en-us/5034803200_FFC_FPC_CONNECTORS.pdf; ComponentLink3Description: Package Specification; ComponentLink3URL: http://www.molex.com/pdm_docs/sd/5034803200_sd.pdf
footprint MOLX-503480-3200 (FPC Connector, 32-Leads, Right Angle, Pitch 0.5 mm, Mated Height 1.0 mm, SMT)
pins: 1, 2, 3, 4, 5, 6, 7, 8, 9, 10, 11, 12, 13, 14, 15, 16, 17, 18, 19, 20, 21, 22, 23, 24, 25, 26, 27, 28, 29, 30, 31, 32, MP1, MP2

## 503566-0900
designator J?
0.3 mm Pitch Easy-On(TM) Housing Assembly FPC Connector, 0.95 mm Mated Height, Right Angle, SMT, Bottom Contact, 9 Circuits, -40 to 85 degC, ELV and RoHS Compliant, Tape and Reel; Manufacturer: Molex; PartNumber: 503566-0900; Circuits (Loaded): 9; Current (Max per Contact): 0.2A; Durability (mating cycles max): 10; Entry Angle: Side Entry; Mated Height: 0.95mm; Material - Metal: Phosphor Bronze; Material - Plating Mating: Gold over Nickel; PCB Locator: No; PCB Retention: None; Pitch - Mating Interface: 0.30mm; Polarized to PCB: Yes; Voltage (Max): 50V; PackageVersion: Rev. F, 06/2011; PackageReference: 503566-0900; PackageDescription: 9-Lead FPC Connector, Pitch 0.3 mm; Circuits (maximum): 9; Contact Position: Bottom; Number of Rows: 1; Orientation: Right Angle; Packing: Tape and Reel; RoHS: TRUE; Stackable: No; Mounting Technology: Surface Mount; ComponentLink1Description: Manufacturer URL; ComponentLink1URL: http://www.molex.com/molex/index.jsp; ComponentLink2Description: Datasheet; ComponentLink2URL: http://www.molex.com/webdocs/datasheets/pdf/en-us/5035660900_FFC_FPC_CONNECTORS.pdf; ComponentLink3Description: Package Specification; ComponentLink3URL: http://www.molex.com/pdm_docs/sd/5035660900_sd.pdf
footprint MOLX-503566-0900 (FPC Connector, 9-Leads, Right Angle, Pitch 0.3 mm, Mated Height 0.95 mm, SMT)
pins: 1, 2, 3, 4, 5, 6, 7, 8, 9, MP1, MP2

## 503566-1100
designator J?
0.3 mm Pitch Easy-On(TM) Housing Assembly FPC Connector, 0.95 mm Mated Height, Right Angle, SMT, Bottom Contact, 11 Circuits, -40 to 85 degC, ELV and RoHS Compliant, Tape and Reel; Manufacturer: Molex; PartNumber: 503566-1100; Circuits (Loaded): 11; Current (Max per Contact): 0.2A; Durability (mating cycles max): 10; Entry Angle: Side Entry; Mated Height: 0.95mm; Material - Metal: Phosphor Bronze; Material - Plating Mating: Gold over Nickel; PCB Locator: No; PCB Retention: None; Pitch - Mating Interface: 0.30mm; Polarized to PCB: Yes; Voltage (Max): 50V; PackageVersion: Rev. F, 06/2011; PackageReference: 503566-1100; PackageDescription: 11-Lead FPC Connector, Pitch 0.3 mm; Circuits (maximum): 11; Contact Position: Bottom; Number of Rows: 1; Orientation: Right Angle; Packing: Tape and Reel; RoHS: TRUE; Stackable: No; Mounting Technology: Surface Mount; ComponentLink1Description: Manufacturer URL; ComponentLink1URL: http://www.molex.com/molex/index.jsp; ComponentLink2Description: Datasheet; ComponentLink2URL: http://www.molex.com/webdocs/datasheets/pdf/en-us/5035661100_FFC_FPC_CONNECTORS.pdf; ComponentLink3Description: Package Specification; ComponentLink3URL: http://www.molex.com/pdm_docs/sd/5035661100_sd.pdf
footprint MOLX-503566-1100 (FPC Connector, 11-Leads, Right Angle, Pitch 0.3 mm, Mated Height 0.95 mm, SMT)
pins: 1, 2, 3, 4, 5, 6, 7, 8, 9, 10, 11, MP1, MP2

## 503566-1300
designator J?
0.3 mm Pitch Easy-On(TM) Housing Assembly FPC Connector, 0.95 mm Mated Height, Right Angle, SMT, Bottom Contact, 13 Circuits, -40 to 85 degC, ELV and RoHS Compliant, Tape and Reel; Manufacturer: Molex; PartNumber: 503566-1300; Circuits (Loaded): 13; Current (Max per Contact): 0.2A; Durability (mating cycles max): 10; Entry Angle: Side Entry; Mated Height: 0.95mm; Material - Metal: Phosphor Bronze; Material - Plating Mating: Gold over Nickel; PCB Locator: No; PCB Retention: None; Pitch - Mating Interface: 0.30mm; Polarized to PCB: Yes; Voltage (Max): 50V; PackageVersion: Rev. F, 06/2011; PackageReference: 503566-1300; PackageDescription: 13-Lead FPC Connector, Pitch 0.3 mm; Circuits (maximum): 13; Contact Position: Bottom; Number of Rows: 1; Orientation: Right Angle; Packing: Tape and Reel; RoHS: TRUE; Stackable: No; Mounting Technology: Surface Mount; ComponentLink1Description: Manufacturer URL; ComponentLink1URL: http://www.molex.com/molex/index.jsp; ComponentLink2Description: Datasheet; ComponentLink2URL: http://www.molex.com/webdocs/datasheets/pdf/en-us/5035661300_FFC_FPC_CONNECTORS.pdf; ComponentLink3Description: Package Specification; ComponentLink3URL: http://www.molex.com/pdm_docs/sd/5035661300_sd.pdf
footprint MOLX-503566-1300 (FPC Connector, 13-Leads, Right Angle, Pitch 0.3 mm, Mated Height 0.95 mm, SMT)
pins: 1, 2, 3, 4, 5, 6, 7, 8, 9, 10, 11, 12, 13, MP1, MP2

## 503566-1500
designator J?
0.3 mm Pitch Easy-On(TM) Housing Assembly FPC Connector, 0.95 mm Mated Height, Right Angle, SMT, Bottom Contact, 15 Circuits, -40 to 85 degC, ELV and RoHS Compliant, Tape and Reel; Manufacturer: Molex; PartNumber: 503566-1500; Circuits (Loaded): 15; Current (Max per Contact): 0.2A; Durability (mating cycles max): 10; Entry Angle: Side Entry; Mated Height: 0.95mm; Material - Metal: Phosphor Bronze; Material - Plating Mating: Gold over Nickel; PCB Locator: No; PCB Retention: None; Pitch - Mating Interface: 0.30mm; Polarized to PCB: Yes; Voltage (Max): 50V; PackageVersion: Rev. F, 06/2011; PackageReference: 503566-1500; PackageDescription: 15-Lead FPC Connector, Pitch 0.3 mm; Circuits (maximum): 15; Contact Position: Bottom; Number of Rows: 1; Orientation: Right Angle; Packing: Tape and Reel; RoHS: TRUE; Stackable: No; Mounting Technology: Surface Mount; ComponentLink1Description: Manufacturer URL; ComponentLink1URL: http://www.molex.com/molex/index.jsp; ComponentLink2Description: Datasheet; ComponentLink2URL: http://www.molex.com/webdocs/datasheets/pdf/en-us/5035661500_FFC_FPC_CONNECTORS.pdf; ComponentLink3Description: Package Specification; ComponentLink3URL: http://www.molex.com/pdm_docs/sd/5035661500_sd.pdf
footprint MOLX-503566-1500 (FPC Connector, 15-Leads, Right Angle, Pitch 0.3 mm, Mated Height 0.95 mm, SMT)
pins: 1, 2, 3, 4, 5, 6, 7, 8, 9, 10, 11, 12, 13, 14, 15, MP1, MP2

## 503566-1700
designator J?
0.3 mm Pitch Easy-On(TM) Housing Assembly FPC Connector, 0.95 mm Mated Height, Right Angle, SMT, Bottom Contact, 17 Circuits, -40 to 85 degC, ELV and RoHS Compliant, Tape and Reel; Manufacturer: Molex; PartNumber: 503566-1700; Circuits (Loaded): 17; Current (Max per Contact): 0.2A; Durability (mating cycles max): 10; Entry Angle: Side Entry; Mated Height: 0.95mm; Material - Metal: Phosphor Bronze; Material - Plating Mating: Gold over Nickel; PCB Locator: No; PCB Retention: None; Pitch - Mating Interface: 0.30mm; Polarized to PCB: Yes; Voltage (Max): 50V; PackageVersion: Rev. F, 06/2011; PackageReference: 503566-1700; PackageDescription: 17-Lead FPC Connector, Pitch 0.3 mm; Circuits (maximum): 17; Contact Position: Bottom; Number of Rows: 1; Orientation: Right Angle; Packing: Tape and Reel; RoHS: TRUE; Stackable: No; Mounting Technology: Surface Mount; ComponentLink1Description: Manufacturer URL; ComponentLink1URL: http://www.molex.com/molex/index.jsp; ComponentLink2Description: Datasheet; ComponentLink2URL: http://www.molex.com/webdocs/datasheets/pdf/en-us/5035661700_FFC_FPC_CONNECTORS.pdf; ComponentLink3Description: Package Specification; ComponentLink3URL: http://www.molex.com/pdm_docs/sd/5035661700_sd.pdf
footprint MOLX-503566-1700 (FPC Connector, 17-Leads, Right Angle, Pitch 0.3 mm, Mated Height 0.95 mm, SMT)
pins: 1, 2, 3, 4, 5, 6, 7, 8, 9, 10, 11, 12, 13, 14, 15, 16, 17, MP1, MP2

## 503566-1900
designator J?
0.3 mm Pitch Easy-On(TM) Housing Assembly FPC Connector, 0.95 mm Mated Height, Right Angle, SMT, Bottom Contact, 19 Circuits, -40 to 85 degC, ELV and RoHS Compliant, Tape and Reel; Manufacturer: Molex; PartNumber: 503566-1900; Circuits (Loaded): 19; Current (Max per Contact): 0.2A; Durability (mating cycles max): 10; Entry Angle: Side Entry; Mated Height: 0.95mm; Material - Metal: Phosphor Bronze; Material - Plating Mating: Gold over Nickel; PCB Locator: No; PCB Retention: None; Pitch - Mating Interface: 0.30mm; Polarized to PCB: Yes; Voltage (Max): 50V; PackageVersion: Rev. F, 06/2011; PackageReference: 503566-1900; PackageDescription: 19-Lead FPC Connector, Pitch 0.3 mm; Circuits (maximum): 19; Contact Position: Bottom; Number of Rows: 1; Orientation: Right Angle; Packing: Tape and Reel; RoHS: TRUE; Stackable: No; Mounting Technology: Surface Mount; ComponentLink1Description: Manufacturer URL; ComponentLink1URL: http://www.molex.com/molex/index.jsp; ComponentLink2Description: Datasheet; ComponentLink2URL: http://www.molex.com/webdocs/datasheets/pdf/en-us/5035661900_FFC_FPC_CONNECTORS.pdf; ComponentLink3Description: Package Specification; ComponentLink3URL: http://www.molex.com/pdm_docs/sd/5035661900_sd.pdf
footprint MOLX-503566-1900 (FPC Connector, 19-Leads, Right Angle, Pitch 0.3 mm, Mated Height 0.95 mm, SMT)
pins: 1, 2, 3, 4, 5, 6, 7, 8, 9, 10, 11, 12, 13, 14, 15, 16, 17, 18, 19, MP1, MP2

## 503566-2100
designator J?
0.3 mm Pitch Easy-On(TM) Housing Assembly FPC Connector, 0.95 mm Mated Height, Right Angle, SMT, Bottom Contact, 21 Circuits, -40 to 85 degC, ELV and RoHS Compliant, Tape and Reel; Manufacturer: Molex; PartNumber: 503566-2100; Circuits (Loaded): 21; Current (Max per Contact): 0.2A; Durability (mating cycles max): 10; Entry Angle: Side Entry; Mated Height: 0.95mm; Material - Metal: Phosphor Bronze; Material - Plating Mating: Gold over Nickel; PCB Locator: No; PCB Retention: None; Pitch - Mating Interface: 0.30mm; Polarized to PCB: Yes; Voltage (Max): 50V; PackageVersion: Rev. F, 06/2011; PackageReference: 503566-2100; PackageDescription: 21-Lead FPC Connector, Pitch 0.3 mm; Circuits (maximum): 21; Contact Position: Bottom; Number of Rows: 1; Orientation: Right Angle; Packing: Tape and Reel; RoHS: TRUE; Stackable: No; Mounting Technology: Surface Mount; ComponentLink1Description: Manufacturer URL; ComponentLink1URL: http://www.molex.com/molex/index.jsp; ComponentLink2Description: Datasheet; ComponentLink2URL: http://www.molex.com/webdocs/datasheets/pdf/en-us/5035662100_FFC_FPC_CONNECTORS.pdf; ComponentLink3Description: Package Specification; ComponentLink3URL: http://www.molex.com/pdm_docs/sd/5035662100_sd.pdf
footprint MOLX-503566-2100 (FPC Connector, 21-Leads, Right Angle, Pitch 0.3 mm, Mated Height 0.95 mm, SMT)
pins: 1, 2, 3, 4, 5, 6, 7, 8, 9, 10, 11, 12, 13, 14, 15, 16, 17, 18, 19, 20, 21, MP1, MP2

## 503566-2300
designator J?
0.3 mm Pitch Easy-On(TM) Housing Assembly FPC Connector, 0.95 mm Mated Height, Right Angle, SMT, Bottom Contact, 23 Circuits, -40 to 85 degC, ELV and RoHS Compliant, Tape and Reel; Manufacturer: Molex; PartNumber: 503566-2300; Circuits (Loaded): 23; Current (Max per Contact): 0.2A; Durability (mating cycles max): 10; Entry Angle: Side Entry; Mated Height: 0.95mm; Material - Metal: Phosphor Bronze; Material - Plating Mating: Gold over Nickel; PCB Locator: No; PCB Retention: None; Pitch - Mating Interface: 0.30mm; Polarized to PCB: Yes; Voltage (Max): 50V; PackageVersion: Rev. F, 06/2011; PackageReference: 503566-2300; PackageDescription: 23-Lead FPC Connector, Pitch 0.3 mm; Circuits (maximum): 23; Contact Position: Bottom; Number of Rows: 1; Orientation: Right Angle; Packing: Tape and Reel; RoHS: TRUE; Stackable: No; Mounting Technology: Surface Mount; ComponentLink1Description: Manufacturer URL; ComponentLink1URL: http://www.molex.com/molex/index.jsp; ComponentLink2Description: Datasheet; ComponentLink2URL: http://www.molex.com/webdocs/datasheets/pdf/en-us/5035662300_FFC_FPC_CONNECTORS.pdf; ComponentLink3Description: Package Specification; ComponentLink3URL: http://www.molex.com/pdm_docs/sd/5035662300_sd.pdf
footprint MOLX-503566-2300 (FPC Connector, 23-Leads, Right Angle, Pitch 0.3 mm, Mated Height 0.95 mm, SMT)
pins: 1, 2, 3, 4, 5, 6, 7, 8, 9, 10, 11, 12, 13, 14, 15, 16, 17, 18, 19, 20, 21, 22, 23, MP1, MP2

## 503566-2500
designator J?
0.3 mm Pitch Easy-On(TM) Housing Assembly FPC Connector, 0.95 mm Mated Height, Right Angle, SMT, Bottom Contact, 25 Circuits, -40 to 85 degC, ELV and RoHS Compliant, Tape and Reel; Manufacturer: Molex; PartNumber: 503566-2500; Circuits (Loaded): 25; Current (Max per Contact): 0.2A; Durability (mating cycles max): 10; Entry Angle: Side Entry; Mated Height: 0.95mm; Material - Metal: Phosphor Bronze; Material - Plating Mating: Gold over Nickel; PCB Locator: No; PCB Retention: None; Pitch - Mating Interface: 0.30mm; Polarized to PCB: Yes; Voltage (Max): 50V; PackageVersion: Rev. F, 06/2011; PackageReference: 503566-2500; PackageDescription: 25-Lead FPC Connector, Pitch 0.3 mm; Circuits (maximum): 25; Contact Position: Bottom; Number of Rows: 1; Orientation: Right Angle; Packing: Tape and Reel; RoHS: TRUE; Stackable: No; Mounting Technology: Surface Mount; ComponentLink1Description: Manufacturer URL; ComponentLink1URL: http://www.molex.com/molex/index.jsp; ComponentLink2Description: Datasheet; ComponentLink2URL: http://www.molex.com/webdocs/datasheets/pdf/en-us/5035662500_FFC_FPC_CONNECTORS.pdf; ComponentLink3Description: Package Specification; ComponentLink3URL: http://www.molex.com/pdm_docs/sd/5035662500_sd.pdf
footprint MOLX-503566-2500 (FPC Connector, 25-Leads, Right Angle, Pitch 0.3 mm, Mated Height 0.95 mm, SMT)
pins: 1, 2, 3, 4, 5, 6, 7, 8, 9, 10, 11, 12, 13, 14, 15, 16, 17, 18, 19, 20, 21, 22, 23, 24, 25, MP1, MP2

## 503566-2700
designator J?
0.3 mm Pitch Easy-On(TM) Housing Assembly FPC Connector, 0.95 mm Mated Height, Right Angle, SMT, Bottom Contact, 27 Circuits, -40 to 85 degC, ELV and RoHS Compliant, Tape and Reel; Manufacturer: Molex; PartNumber: 503566-2700; Circuits (Loaded): 27; Current (Max per Contact): 0.2A; Durability (mating cycles max): 10; Entry Angle: Side Entry; Mated Height: 0.95mm; Material - Metal: Phosphor Bronze; Material - Plating Mating: Gold over Nickel; PCB Locator: No; PCB Retention: None; Pitch - Mating Interface: 0.30mm; Polarized to PCB: Yes; Voltage (Max): 50V; PackageVersion: Rev. F, 06/2011; PackageReference: 503566-2700; PackageDescription: 27-Lead FPC Connector, Pitch 0.3 mm; Circuits (maximum): 27; Contact Position: Bottom; Number of Rows: 1; Orientation: Right Angle; Packing: Tape and Reel; RoHS: TRUE; Stackable: No; Mounting Technology: Surface Mount; ComponentLink1Description: Manufacturer URL; ComponentLink1URL: http://www.molex.com/molex/index.jsp; ComponentLink2Description: Datasheet; ComponentLink2URL: http://www.molex.com/webdocs/datasheets/pdf/en-us/5035662700_FFC_FPC_CONNECTORS.pdf; ComponentLink3Description: Package Specification; ComponentLink3URL: http://www.molex.com/pdm_docs/sd/5035662700_sd.pdf
footprint MOLX-503566-2700 (FPC Connector, 27-Leads, Right Angle, Pitch 0.3 mm, Mated Height 0.95 mm, SMT)
pins: 1, 2, 3, 4, 5, 6, 7, 8, 9, 10, 11, 12, 13, 14, 15, 16, 17, 18, 19, 20, 21, 22, 23, 24, 25, 26, 27, MP1, MP2